# EAGLE library part 1-1634580-2 (library DG-9)
Conn D-Subminiature PIN 9 POS 2.77mm Solder RA Thru-Hole 9 Terminal 1 Port Tray
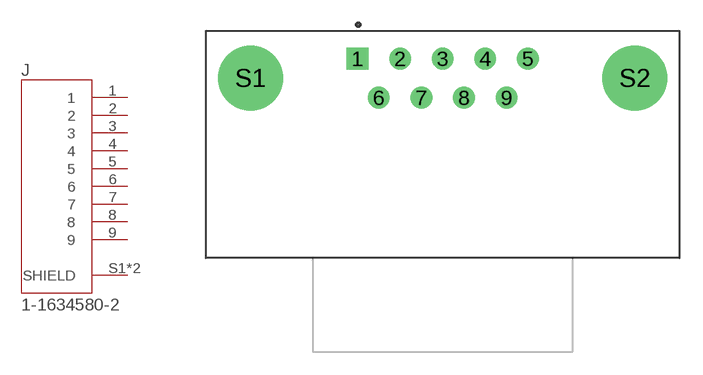
[diagram p0: symbol with the pads of TE_1-1634580-2; footprint TE_1-1634580-2]

Designator prefix J

## 1-1634580-2 (Availability: Unavailable; Description: Conn D-Subminiature PIN 9 POS 2.77mm Solder RA Thru-Hole 9 Terminal 1 Port Tray; MF: TE Connectivity; MP: 1-1634580-2; Package: None; Price: None; TE_purchase_URL: https://www.te.com/usa-en/product-1-1634580-2.html?te_bu=Cor&te_type=disp&te_campaign=seda_glo_cor-seda-global-disp-prtnr-fy19-seda-model-bom-cta_sma-317_1&elqCampaignId=32493)  [TE_1-1634580-2]
1  1  pas
2  2  pas
3  3  pas
4  4  pas
5  5  pas
6  6  pas
7  7  pas
8  8  pas
9  9  pas
S1  SHIELD  pas
S2  SHIELD  pas

## Footprint TE_1-1634580-2 (pad centres in mm)
drill 0.9 square: 1 -5.54,1.27
drill 0.9: 2 -2.77,1.27; 3 0,1.27; 4 2.77,1.27; 5 5.54,1.27; 6 -4.155,-1.27; 7 -1.385,-1.27; 8 1.385,-1.27; 9 4.155,-1.27
drill 3.2: S1 -12.495,0; S2 12.495,0